# EAGLE library part MC34063 (library texas)
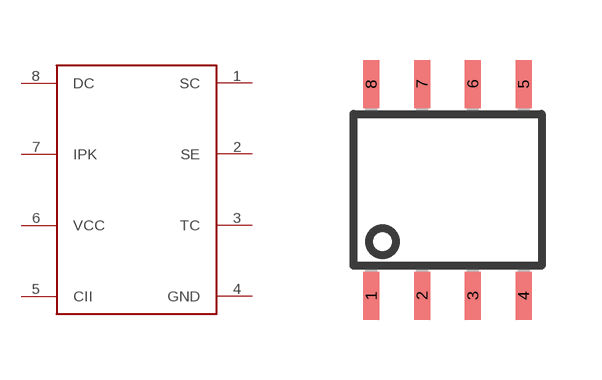
[diagram p124: symbol with the pads of D_R-PDSO-G08; footprint D_R-PDSO-G08]

Designator prefix -

## MC34063  [D_R-PDSO-G08]
1  SC
2  SE
3  TC
4  GND
5  CII
6  VCC
7  IPK
8  DC

## Footprint D_R-PDSO-G08 (pad centres in mm)
PLASTIC SMALL-OUTLINE PACKAGE SO 14 JEDEC MS-012, D Type Source: www.ti.com/.. slvs087l.pdf
smd 0.4 x 1.2: 1 -1.905,-2.65; 2 -0.635,-2.65; 3 0.635,-2.65; 4 1.905,-2.65; 5 1.905,2.65; 6 0.635,2.65; 7 -0.635,2.65; 8 -1.905,2.65